# Altium schematic symbol library Schlib1.SchLib: 4 symbols
Pins are listed as number, name and electrical type; pins without a type are passive.

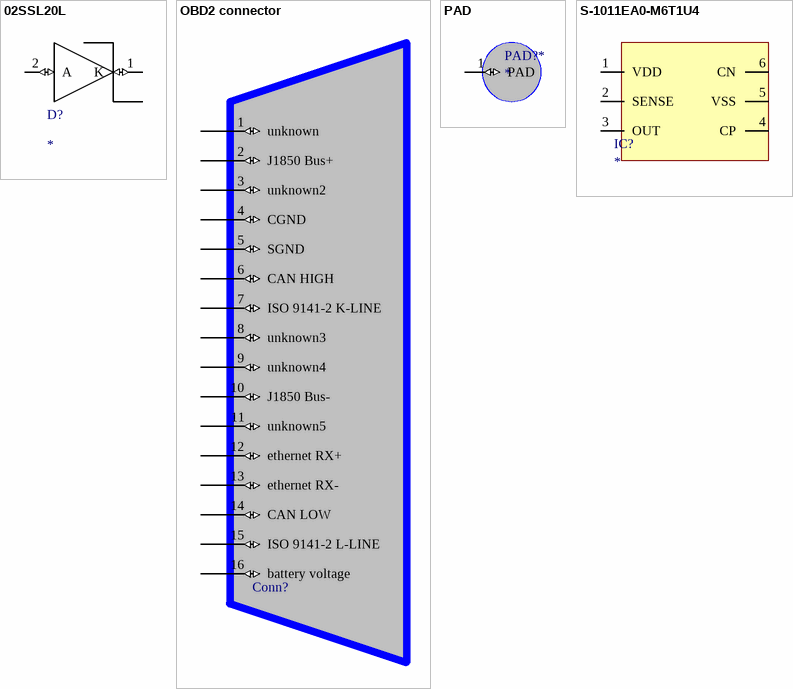
[diagram p0: symbols 02SSL20L to S-1011EA0-M6T1U4]

## 02SSL20L
designator D?
SCHOTTKY DIODE https://eu.mouser.com/datasheet/2/345/02ssl20l-02ssl40l-1107799.pdf
footprint SODFL370X100-2N (SODFL, 2-Leads, Body 1,85x3,70mm, IPC Medium Density)
pins: 1 K (io), 2 A (io)

## OBD2 connector
designator Conn?  (value not drawn)
footprint OBD2
pins: 1 unknown (io), 2 J1850 Bus+ (io), 3 unknown2 (io), 4 CGND (io), 5 SGND (io), 6 CAN HIGH (io), 7 ISO 9141-2 K-LINE (io), 8 unknown3 (io), 9 unknown4 (io), 10 J1850 Bus- (io), 11 unknown5 (io), 12 ethernet RX+ (io), 13 ethernet RX- (io), 14 CAN LOW (io), 15 ISO 9141-2 L-LINE (io), 16 battery voltage (io)

## PAD
designator PAD?*
just a pad
footprint PAD
pins: 1 PAD (io)

## S-1011EA0-M6T1U4
designator IC?
Voltage detector
footprint SOT95P245X110-6N (SOT23, 6-Leads, Body 2,90x2,45mm, Pitch 0,95mm, IPC Medium Density)
pins: 1 VDD, 2 SENSE, 3 OUT, 4 CP, 5 VSS, 6 CN